# Altium footprint library Power Inductors.PcbLib: 10 footprints
Each footprint in its own frame and in the unit in brackets; x right, y up, seen from the top. Pads: shape width x height; smd on the part's side, far side on the other; paste and mask are expansions set on the pad; w line width, h text height; cw(c..) or ccw(c..) is an arc to the next point about the centre after c.
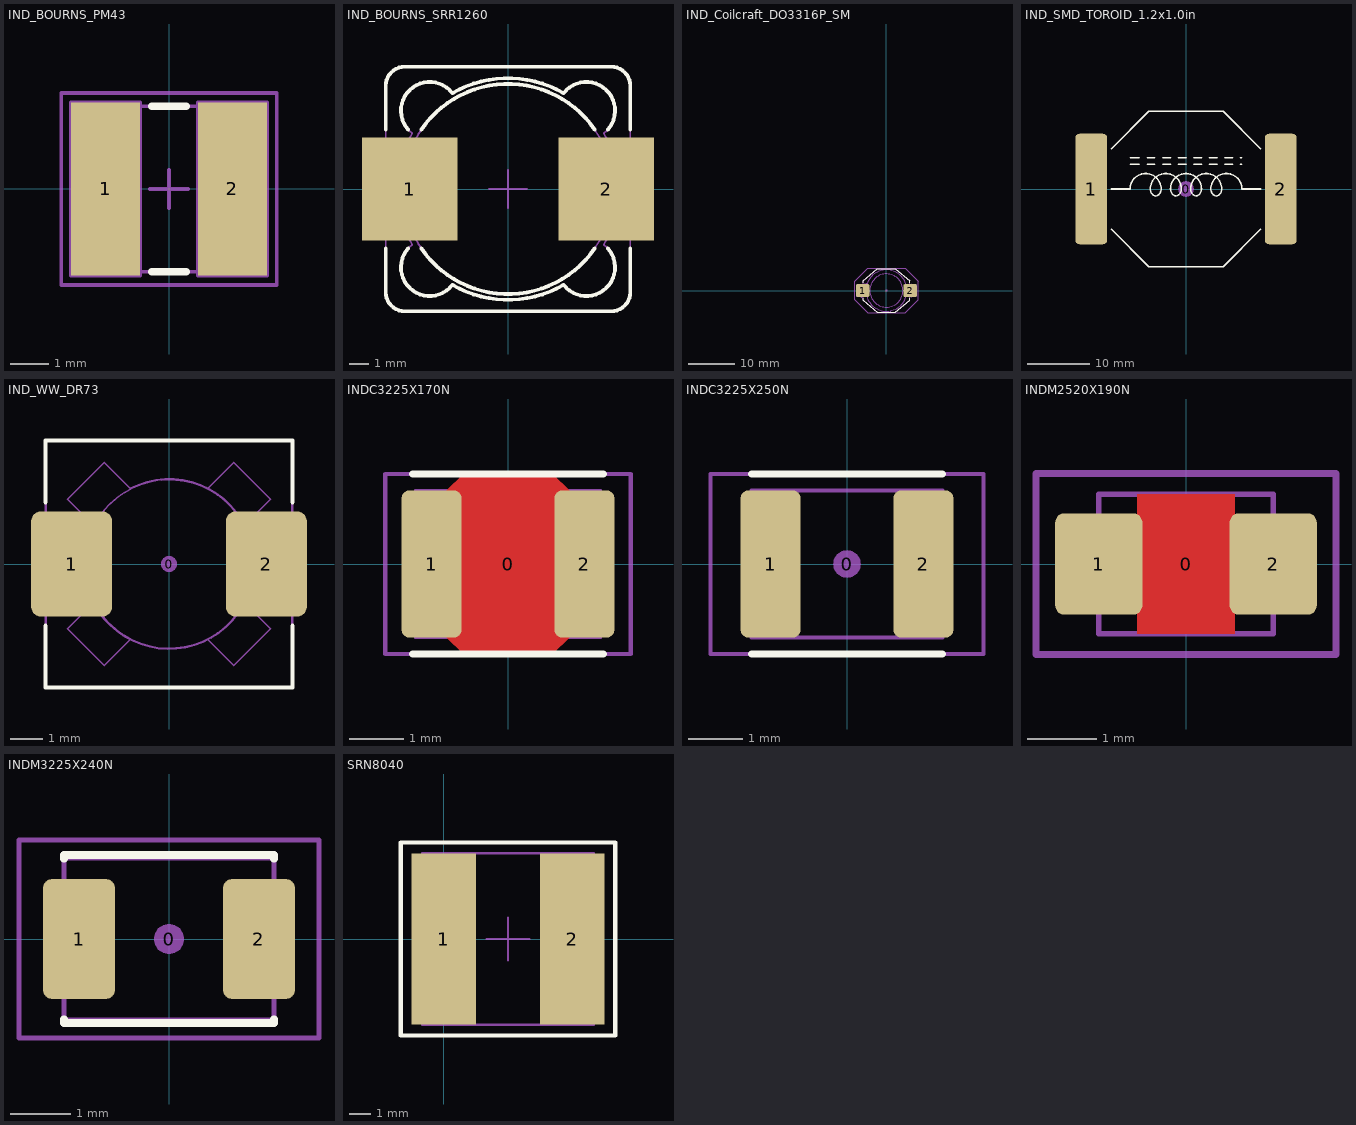
[diagram p0: the footprints below, top view; thin cyan lines are the x and y axes]

## IND_BOURNS_PM43 [mm] "SMD Inductor  Body Width 4.5mm Body Lenght 4mm Height 3.5mm"
height 3.5
pads (2):
  rect 1.8x4.5 smd: 1(-1.65,0) 2(1.65,0)
Top Overlay:
  lines w0.2: -0.45,-2.15 0.45,-2.15 ; -0.45,2.15 0.45,2.15
Mechanical 8:
  lines w0.1: -2.15,0 -1.65,0 ; -1.65,-0.5 -1.65,0 ; -1.65,0.5 -1.65,0 ; -1.15,0 -1.65,0 ; -0.5,0 0,0 ; 0,-0.5 0,0 ; 0,0.5 0,0 ; 0.5,0 0,0 ; 1.15,0 1.65,0 ; 1.65,-0.5 1.65,0 ; 1.65,0.5 1.65,0 ; 2.15,0 1.65,0 ; -2.55,-2.25 -0.75,-2.25 -0.75,2.25 -2.55,2.25 -2.55,-2.25 ; 0.75,-2.25 2.55,-2.25 2.55,2.25 0.75,2.25 0.75,-2.25
Mechanical 14:
  lines w0.1: -0.75,-2.15 -0.75,2.15 ; 0.75,-2.15 0.75,2.15 ; -2.381,-0.3 ccw(c0,0) -1.067,-2.15 1.067,-2.15 ccw(c0,0) 2.381,-0.3 2.1,-0.3 cw(c2.1,0) 2.1,0.3 2.381,0.3 ccw(c0,0) 1.067,2.15 -1.067,2.15 ccw(c0,0) -2.381,0.3 -2.1,0.3 cw(c-2.1,0) -2.1,-0.3 -2.381,-0.3
Mechanical 15:
  lines w0.1: -2.8,-2.5 -2.8,2.5 2.8,2.5 2.8,-2.5 -2.8,-2.5
3D body "IND_BOURNS_PM43.stp": height 3.5, standoff 0, extent -2.381,-2.15 2.381,2.15

## IND_BOURNS_SRR1260 [mm] "SMD Inductor  Body Width 12.5mm Body Lenght 12.5mm Height 6.5mm"
height 6.5
pads (2):
  rect 5x5.4 smd: 1(-5.15,0) 2(5.15,0)
Top Overlay:
  lines w0.2: -6.4,-3.1 -6.4,-5.4 ccw(c-5.4,-5.4) -5.4,-6.4 5.4,-6.4 ccw(c5.4,-5.4) 6.4,-5.4 6.4,-3.1 ; -6.4,3.1 -6.4,5.4 cw(c-5.4,5.4) -5.4,6.4 5.4,6.4 cw(c5.4,5.4) 6.4,5.4 6.4,3.1 ; -5.218,-3.1 ccw(c-4.101,-4.101) -2.912,-5.016 ccw(c0,0) 2.912,-5.016 ccw(c4.101,-4.101) 5.218,-3.1 ; -5.218,3.1 cw(c-4.101,4.101) -2.912,5.016 cw(c0,0) 2.912,5.016 cw(c4.101,4.101) 5.218,3.1 ; -4.543,-3.1 ccw(c0,0) 4.543,-3.1 ; -4.543,3.1 cw(c0,0) 4.543,3.1
Mechanical 8:
  lines w0.1: -5.85,0 -4.85,0 ; -4.85,-1 -4.85,0 ; -4.85,1 -4.85,0 ; -3.85,0 -4.85,0 ; -1,0 0,0 ; 0,-1 0,0 ; 0,1 0,0 ; 1,0 0,0 ; 3.85,0 4.85,0 ; 4.85,-1 4.85,0 ; 4.85,1 4.85,0 ; 5.85,0 4.85,0
Mechanical 14:
  circle w0.1: c0,0 r5.5
  lines w0.1: -6.4,-5.4 ccw(c-5.4,-5.4) -5.4,-6.4 5.4,-6.4 ccw(c5.4,-5.4) 6.4,-5.4 6.4,5.4 ccw(c5.4,5.4) 5.4,6.4 -5.4,6.4 ccw(c-5.4,5.4) -6.4,5.4 -6.4,-5.4 ; -5.016,-2.912 cw(c0,0) -5.016,2.912 cw(c-4.101,4.101) -2.912,5.016 cw(c0,0) 2.912,5.016 cw(c4.101,4.101) 5.016,2.912 cw(c0,0) 5.016,-2.912 cw(c4.101,-4.101) 2.912,-5.016 cw(c0,0) -2.912,-5.016 cw(c-4.101,-4.101) -5.016,-2.912
3D body "IND_BOURNS_SRR1260.stp": height 6.5, standoff 0, extent -6.4,-6.4 6.4,6.4

## IND_Coilcraft_DO3316P_SM [mil] "Wire-wound Power Inductor, 2-Leads, Body 12.95x9.4mm"
height 205
pads (3):
  round 20 on Mech15: 0(0,0)
  rrect25% 115x110 smd: 1(-202.5,0) 2(202.5,0)
Top Overlay:
  lines w6: -200,-65 -200,-82.84 -76.63,-185 76.63,-185 200,-82.84 200,-65 ; -200,65 -200,82.84 -76.63,185 76.63,185 200,82.84 200,65
Mechanical 13:
  drawing of 272 lines, arcs and shapes, not listed
Mechanical 15:
  lines w3: -270,-80 -270,80 -160,190 160,190 270,80 270,-80 160,-190 -160,-190 -270,-80
3D body "Pulse Inductor RR.STEP": height 172.5, standoff 0, extent -255.38,-185 255.2,185

## IND_SMD_TOROID_1.2x1.0in [mm] "Inductor, Toroid, 30.5mm L x 25.4mm W x 13.5mm T"
height 13.5
pads (3):
  round 2.54 on Mech15: 0(0,0)
  rrect25% 5.1x17.8 smd: 1(-15.25,0) 2(15.25,0)
Top Overlay:
  lines w0.254: -12,-6.5 -6,-12.5 6,-12.5 12,-6.5 ; -12,0 -9,0 cw(c-6.5,0) -4,0 cw(c-5.25,0) -4.691,-1.118 cw(c-4.875,0) -5.059,-1.118 cw(c-4.5,0) -5.75,0 cw(c-3.25,0) -0.75,0 cw(c-2,0) -1.441,-1.118 cw(c-1.625,0) -1.809,-1.118 cw(c-1.25,0) -2.5,0 cw(c0,0) 2.5,0 cw(c1.25,0) 1.809,-1.118 cw(c1.625,0) 1.441,-1.118 cw(c2,0) 0.75,0 cw(c3.25,0) 5.75,0 cw(c4.5,0) 5.059,-1.118 cw(c4.875,0) 4.691,-1.118 cw(c5.25,0) 4,0 cw(c6.5,0) 9,0 12,0 ; -12,6.5 -6,12.5 6,12.5 12,6.5 ; -9,4 -7.5,4 ; -9,5 -7.5,5 ; -6.25,4 -5,4 ; -6.25,5 -5,5 ; -3.75,4 -2.5,4 ; -3.75,5 -2.5,5 ; -1.25,4 0,4 ; -1.25,5 0,5 ; 1.25,4 2.5,4 ; 1.25,5 2.5,5 ; 3.75,4 5,4 ; 3.75,5 5,5 ; 6.25,4 7.5,4 ; 6.25,5 7.5,5 ; 8.75,4 9,4 ; 8.75,5 9,5
3D body: height 3.5, standoff 1.5, extent -17,-12.5 17,12.5
3D body: height 12, standoff 5, extent -10,-10 10,10

## IND_WW_DR73 [mm] "Wire-wound power inductor, Cooper Bussmann DR73 series, IPC Medium Density"
height 3.55
pads (3):
  round 0.5 on Mech15: 0(0,0)
  rrect25% 2.5x3.25 smd: 1(-3,0) 2(3,0)
Top Overlay:
  lines w0.127: -3.81,-1.905 -3.81,-3.81 3.81,-3.81 3.81,-1.905 ; -3.81,1.905 -3.81,3.81 3.81,3.81 3.81,1.905
Mechanical 13:
  circle w0.05: c0,0 r2.6
  lines w0.05: -2.574,-0.515 -2.574,-0.367 ; -2.574,0.367 -2.574,0.515 ; -2.346,-1.178 -2.346,-1.121 ; -2.346,1.121 -2.346,1.178 ; -2.273,-1.263 -2.334,-1.202 -3.129,-1.998 -1.998,-3.129 -1.202,-2.334 ; -2.273,1.263 -2.334,1.202 ; -2.202,-1.429 -2.184,-1.411 ; -2.202,1.429 -2.184,1.411 ; -1.429,-2.202 -1.411,-2.184 ; -1.263,-2.273 -1.202,-2.334 ; -1.197,-2.308 -1.202,-2.334 ; -0.237,2.589 -0.232,2.615 ; 0.232,-2.615 0.237,-2.589 ; 1.197,2.308 1.202,2.334 ; 1.202,-2.334 1.998,-3.129 3.129,-1.998 2.334,-1.202 2.273,-1.263 ; 1.263,2.273 1.202,2.334 ; 1.411,2.184 1.429,2.202 ; 2.184,-1.411 2.202,-1.429 ; 2.184,1.411 2.202,1.429 ; 2.273,1.263 2.334,1.202 3.129,1.998 1.998,3.129 1.202,2.334 ; 2.574,-0.515 2.574,-0.367 ; 2.574,0.367 2.574,0.515 ; -2.334,1.202 ccw(c0,0) -1.202,2.334 -1.998,3.129 -3.129,1.998 -2.334,1.202 ; -3.8,-3.8 -3.8,3.8 3.8,3.8 3.8,-3.8 -3.8,-3.8
Mechanical 15:
  lines w0.076: -3.8,-3.8 3.8,-3.8 3.8,3.8 -3.8,3.8 -3.8,-3.8
3D body "Cooper Bussman DR73 Series Inductor.STEP": height 3.55, standoff 0, extent -3.8,-3.8 3.8,3.8

## INDC3225X170N [mm] "Chip Inductor, 2-Leads, Body 3.2x2.5mm, IPC Medium Density"
height 1.7
pads (3):
  round 0.508 on Mech15: 0(0,0)
  rrect25% 1.1x2.7 smd: 1(-1.4,0) 2(1.4,0)
Top Layer:
  pour cut-out: -1.125,1.35 -0.825,1.65 0.825,1.65 1.125,1.35 1.125,-1.35 0.825,-1.65 -0.825,-1.65 -1.125,-1.35
Top Overlay:
  lines w0.127: -1.75,-1.651 1.75,-1.651 ; -1.75,1.651 1.75,1.651
Mechanical 13:
  lines w0.05: -1.7,-1.35 1.7,-1.35 1.7,1.35 -1.7,1.35 -1.7,-1.35
Mechanical 15:
  lines w0.076: -2.25,-1.65 -2.25,1.65 2.25,1.65 2.25,-1.65 -2.25,-1.65
3D body "INDC3225X170N.STEP": height 1.7, standoff 0, extent -1.71,-1.36 1.71,1.36

## INDC3225X250N [mm] "Chip Inductor, 2-Leads, Body 3.2x2.5mm, IPC Medium Density"
height 2.7
pads (3):
  round 0.508 on Mech15: 0(0,0)
  rrect25% 1.1x2.7 smd: 1(-1.4,0) 2(1.4,0)
Top Overlay:
  lines w0.127: -1.75,-1.651 1.75,-1.651 ; -1.75,1.651 1.75,1.651
Mechanical 13:
  lines w0.076: -1.75,-1.35 -1.75,1.35 1.75,1.35 1.75,-1.35 -1.75,-1.35
Mechanical 15:
  lines w0.076: -2.5,-1.65 -2.5,1.65 2.5,1.65 2.5,-1.65 -2.5,-1.65
3D body "INDC3225X250N.STEP": height 2.7, standoff 0, extent -1.7,-1.35 1.7,1.35

## INDM2520X190N [mm] "Inductor, molded body 2.5x2.0mm"
height 1.9
pads (3):
  round 0.508 on Mech15: 0(0,0)
  rrect20% 1.25x1.45 smd: 1(-1.25,0) 2(1.25,0)
Top Layer:
  pour cut-out: -0.7,1 0.7,1 0.7,-1 -0.7,-1
Mechanical 13:
  lines w0.076: -1.25,-1 -1.25,1 1.25,1 1.25,-1 -1.25,-1
Mechanical 15:
  lines w0.1: -2.15,-1.3 -2.15,1.3 2.15,1.3 2.15,-1.3 -2.15,-1.3
3D body "INDM2520X190N.STEP": height 1.79, standoff -0.01, extent -1.25,-1 1.25,1

## INDM3225X240N [mm] "Molded Inductor, 2-Leads, Body 3.2x2.5mm, IPC Medium Density"
height 2.4
pads (3):
  round 0.508 on Mech15: 0(0,0)
  rrect25% 1.2x2 smd: 1(-1.5,0) 2(1.5,0)
Top Overlay:
  lines w0.127: -1.75,-1.338 -1.75,-1.4 1.75,-1.4 1.75,-1.338 ; -1.75,1.338 -1.75,1.4 1.75,1.4 1.75,1.338
Mechanical 13:
  lines w0.076: -1.75,-1.35 1.75,-1.35 1.75,1.35 -1.75,1.35 -1.75,-1.35
Mechanical 15:
  lines w0.076: -2.5,-1.65 2.5,-1.65 2.5,1.65 -2.5,1.65 -2.5,-1.65
3D body "INDM3225X240N.STEP": height 2.4, standoff 0, extent -1.79,-1.35 1.79,1.35

## SRN8040 [mm]
pads (2):
  rect 3x8 smd: 1(0,0) 2(6,0)
Top Overlay:
  lines w0.2: -2,-4.5 -2,4.5 8,4.5 8,-4.5 -2,-4.5
Mechanical 13:
  lines w0.1: -1.009,-4 -1.009,4 7.009,4 7.009,-4 -1.009,-4
Mechanical 15:
  lines w0.1: 2,0 4,0 ; 3,-1 3,1 ; -2,-4.5 -2,4.5 8,4.5 8,-4.5 -2,-4.5
3D body "User Library-Inductor SRN8040 Series.step": height 4, standoff 0, extent -1.009,-4 7.009,4